# Altium footprint library TRANS_EPC2204.PcbLib: 1 footprints
Each footprint in its own frame and in the unit in brackets; x right, y up, seen from the top. Pads: shape width x height; smd on the part's side, far side on the other; paste and mask are expansions set on the pad; w line width, h text height; cw(c..) or ccw(c..) is an arc to the next point about the centre after c.
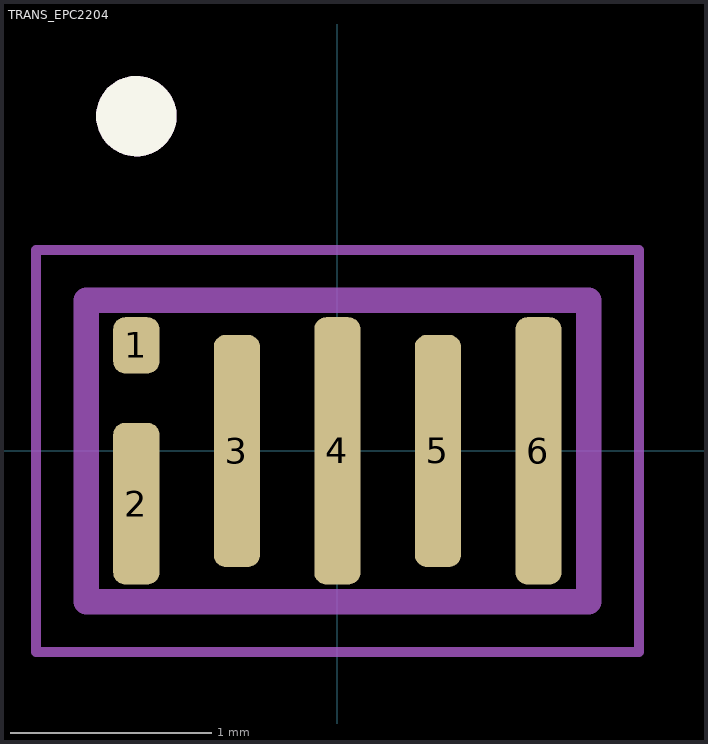
[diagram p0: the footprint, top view; thin cyan lines are the x and y axes]

## TRANS_EPC2204 [mm]
height 0.638
pads (6):
  rrect52% 0.23x0.28 smd paste-1: 1(-1,0.525)
  rrect52% 0.23x0.805 smd paste-1: 2(-1,-0.262)
  rrect52% 0.23x1.155 smd paste-2: 3(-0.5,0) 5(0.5,0)
  rrect52% 0.23x1.33 smd paste-2: 4(0,0) 6(1,0)
Top Overlay:
  circle w0.2: c-1,1.665 r0.1
Top Paste:
  drawing of 6 lines, arcs and shapes, not listed
Assembly Top:
  circle w0.2: c-1,1.665 r0.1
  lines w0.127: -1.25,-0.75 1.25,-0.75 1.25,0.75 -1.25,0.75 -1.25,-0.75
Top Courtyard:
  lines w0.05: -1.5,-1 1.5,-1 1.5,1 -1.5,1 -1.5,-1
3D body "step_temp.STEP": height 0.64, standoff 0, extent -1.25,-0.75 1.25,0.75